# Altium schematic symbol library 6-Pin.SchLib: 2 symbols
Pins are listed as number, name and electrical type; pins without a type are passive.

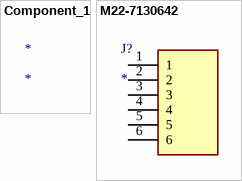
[diagram p0: symbols Component_1 to M22-7130642]

## Component_1
designator *

## M22-7130642
designator J?
Connector; Manufacturer_Name: Harwin; Manufacturer_Part_Number: M22-7130642; Description: 2.00mm (0.079") Pitch SIL Vertical 2.6mm Throughboard Socket Assembly; Datasheet Link: https://cdn.harwin.com/pdfs/M22-713.pdf; Height: 4.4mm; Mouser Part Number: 855-M22-7130642; Mouser Price/Stock: https://www.mouser.co.uk/ProductDetail/Harwin/M22-7130642?qs=ulE8k0yEMYZNQ0oQsOYRzA%3D%3D
footprint RHDR6W50P0X200_1X6_1250X240X440P
pins: 1, 2, 3, 4, 5, 6